# Altium schematic symbol library LM3150.SchLib: 1 symbol
Pins are listed as number, name and electrical type; pins without a type are passive.

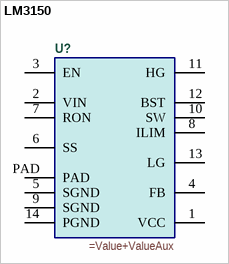
[diagram p0: symbol LM3150]

## LM3150
designator U?
=Description
pins: 1 VCC, 2 VIN, 3 EN, 4 FB, 5 SGND, 6 SS, 7 RON, 8 ILIM, 9 SGND, 10 SW, 11 HG, 12 BST, 13 LG, 14 PGND, PAD